# EAGLE library part AVR-ISP-HEADER (library HyTechDevices)
AVR ISP 6-pin Header Reference <https://en.wikipedia.org/wiki/In-system_programming>
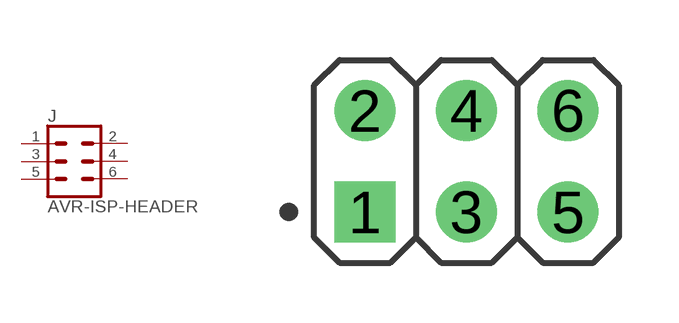
[diagram p120: symbol with the pads of 2X03; footprint 2X03]

Designator prefix J

## AVR-ISP-HEADER (DIGIKEY: S2011EC-03-ND)  [2X03]
1  1  pas
2  2  pas
3  3  pas
4  4  pas
5  5  pas
6  6  pas

## Footprint 2X03 (pad centres in mm)
PIN HEADER
drill 1.016 square: 1 -2.54,-1.27
drill 1.016: 2 -2.54,1.27; 3 0,-1.27; 4 0,1.27; 5 2.54,-1.27; 6 2.54,1.27